# Altium schematic symbol library SCH - MCU - STM32 - ST MICROELECTRONICS STM32F103V(8-B)HX LFBGA100.SchLib: 1 symbol
Pins are listed as number, name and electrical type; pins without a type are passive.

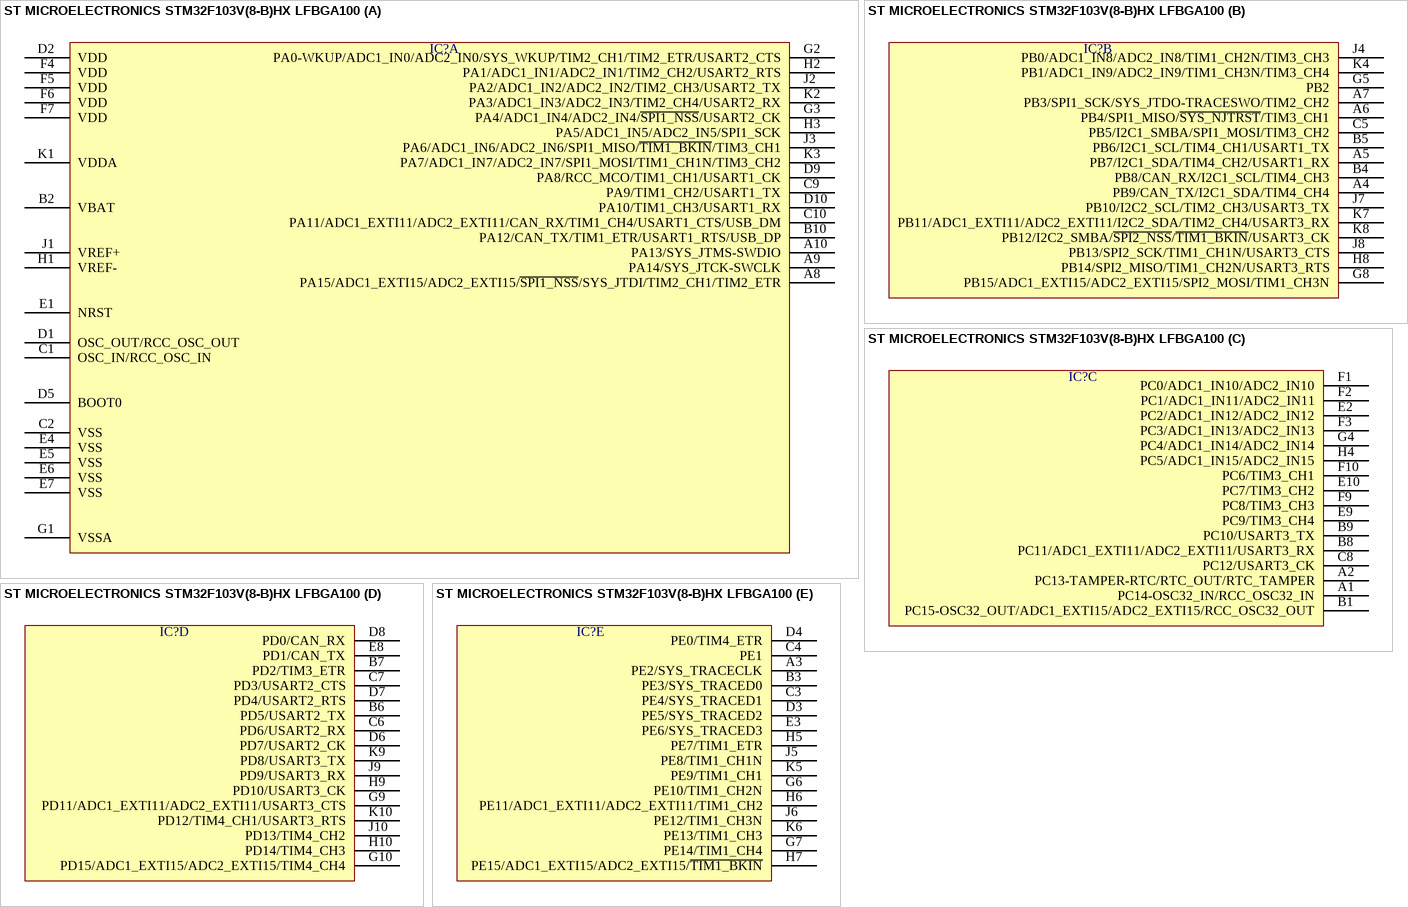
[diagram p0: symbol ST MICROELECTRONICS STM32F103V(8-B)HX LFBGA100]

## ST MICROELECTRONICS STM32F103V(8-B)HX LFBGA100
designator IC?  (value not drawn)
part A pins: A8 PA15/ADC1_EXTI15/ADC2_EXTI15/~{SPI1_NSS}/SYS_JTDI/TIM2_CH1/TIM2_ETR, A9 PA14/SYS_JTCK-SWCLK, A10 PA13/SYS_JTMS-SWDIO, B2 VBAT, B10 PA12/CAN_TX/TIM1_ETR/USART1_RTS/USB_DP, C1 OSC_IN/RCC_OSC_IN, C2 VSS, C9 PA9/TIM1_CH2/USART1_TX, C10 PA11/ADC1_EXTI11/ADC2_EXTI11/CAN_RX/TIM1_CH4/USART1_CTS/USB_DM, D1 OSC_OUT/RCC_OSC_OUT, D2 VDD, D5 BOOT0, D9 PA8/RCC_MCO/TIM1_CH1/USART1_CK, D10 PA10/TIM1_CH3/USART1_RX, E1 NRST, E4 VSS, E5 VSS, E6 VSS, E7 VSS, F4 VDD, F5 VDD, F6 VDD, F7 VDD, G1 VSSA, G2 PA0-WKUP/ADC1_IN0/ADC2_IN0/SYS_WKUP/TIM2_CH1/TIM2_ETR/USART2_CTS, G3 PA4/ADC1_IN4/ADC2_IN4/~{SPI1_NSS}/USART2_CK, H1 VREF-, H2 PA1/ADC1_IN1/ADC2_IN1/TIM2_CH2/USART2_RTS, H3 PA5/ADC1_IN5/ADC2_IN5/SPI1_SCK, J1 VREF+, J2 PA2/ADC1_IN2/ADC2_IN2/TIM2_CH3/USART2_TX, J3 PA6/ADC1_IN6/ADC2_IN6/SPI1_MISO/~{TIM1_BKIN}/TIM3_CH1, K1 VDDA, K2 PA3/ADC1_IN3/ADC2_IN3/TIM2_CH4/USART2_RX, K3 PA7/ADC1_IN7/ADC2_IN7/SPI1_MOSI/TIM1_CH1N/TIM3_CH2
part B pins: A4 PB9/CAN_TX/I2C1_SDA/TIM4_CH4, A5 PB7/I2C1_SDA/TIM4_CH2/USART1_RX, A6 PB4/SPI1_MISO/~{SYS_NJTRST}/TIM3_CH1, A7 PB3/SPI1_SCK/SYS_JTDO-TRACESWO/TIM2_CH2, B4 PB8/CAN_RX/I2C1_SCL/TIM4_CH3, B5 PB6/I2C1_SCL/TIM4_CH1/USART1_TX, C5 PB5/I2C1_SMBA/SPI1_MOSI/TIM3_CH2, G5 PB2, G8 PB15/ADC1_EXTI15/ADC2_EXTI15/SPI2_MOSI/TIM1_CH3N, H8 PB14/SPI2_MISO/TIM1_CH2N/USART3_RTS, J4 PB0/ADC1_IN8/ADC2_IN8/TIM1_CH2N/TIM3_CH3, J7 PB10/I2C2_SCL/TIM2_CH3/USART3_TX, J8 PB13/SPI2_SCK/TIM1_CH1N/USART3_CTS, K4 PB1/ADC1_IN9/ADC2_IN9/TIM1_CH3N/TIM3_CH4, K7 PB11/ADC1_EXTI11/ADC2_EXTI11/I2C2_SDA/TIM2_CH4/USART3_RX, K8 PB12/I2C2_SMBA/~{SPI2_NSS}/~{TIM1_BKIN}/USART3_CK
part C pins: A1 PC14-OSC32_IN/RCC_OSC32_IN, A2 PC13-TAMPER-RTC/RTC_OUT/RTC_TAMPER, B1 PC15-OSC32_OUT/ADC1_EXTI15/ADC2_EXTI15/RCC_OSC32_OUT, B8 PC11/ADC1_EXTI11/ADC2_EXTI11/USART3_RX, B9 PC10/USART3_TX, C8 PC12/USART3_CK, E2 PC2/ADC1_IN12/ADC2_IN12, E9 PC9/TIM3_CH4, E10 PC7/TIM3_CH2, F1 PC0/ADC1_IN10/ADC2_IN10, F2 PC1/ADC1_IN11/ADC2_IN11, F3 PC3/ADC1_IN13/ADC2_IN13, F9 PC8/TIM3_CH3, F10 PC6/TIM3_CH1, G4 PC4/ADC1_IN14/ADC2_IN14, H4 PC5/ADC1_IN15/ADC2_IN15
part D pins: B6 PD5/USART2_TX, B7 PD2/TIM3_ETR, C6 PD6/USART2_RX, C7 PD3/USART2_CTS, D6 PD7/USART2_CK, D7 PD4/USART2_RTS, D8 PD0/CAN_RX, E8 PD1/CAN_TX, G9 PD11/ADC1_EXTI11/ADC2_EXTI11/USART3_CTS, G10 PD15/ADC1_EXTI15/ADC2_EXTI15/TIM4_CH4, H9 PD10/USART3_CK, H10 PD14/TIM4_CH3, J9 PD9/USART3_RX, J10 PD13/TIM4_CH2, K9 PD8/USART3_TX, K10 PD12/TIM4_CH1/USART3_RTS
part E pins: A3 PE2/SYS_TRACECLK, B3 PE3/SYS_TRACED0, C3 PE4/SYS_TRACED1, C4 PE1, D3 PE5/SYS_TRACED2, D4 PE0/TIM4_ETR, E3 PE6/SYS_TRACED3, G6 PE10/TIM1_CH2N, G7 PE14/TIM1_CH4, H5 PE7/TIM1_ETR, H6 PE11/ADC1_EXTI11/ADC2_EXTI11/TIM1_CH2, H7 PE15/ADC1_EXTI15/ADC2_EXTI15/~{TIM1_BKIN}, J5 PE8/TIM1_CH1N, J6 PE12/TIM1_CH3N, K5 PE9/TIM1_CH1, K6 PE13/TIM1_CH3